# Altium footprint library IBB.PcbLib: 53 footprints (part 3 of 4)
Each footprint in its own frame and in the unit in brackets; x right, y up, seen from the top. Pads: shape width x height; smd on the part's side, far side on the other; paste and mask are expansions set on the pad; w line width, h text height; cw(c..) or ccw(c..) is an arc to the next point about the centre after c.
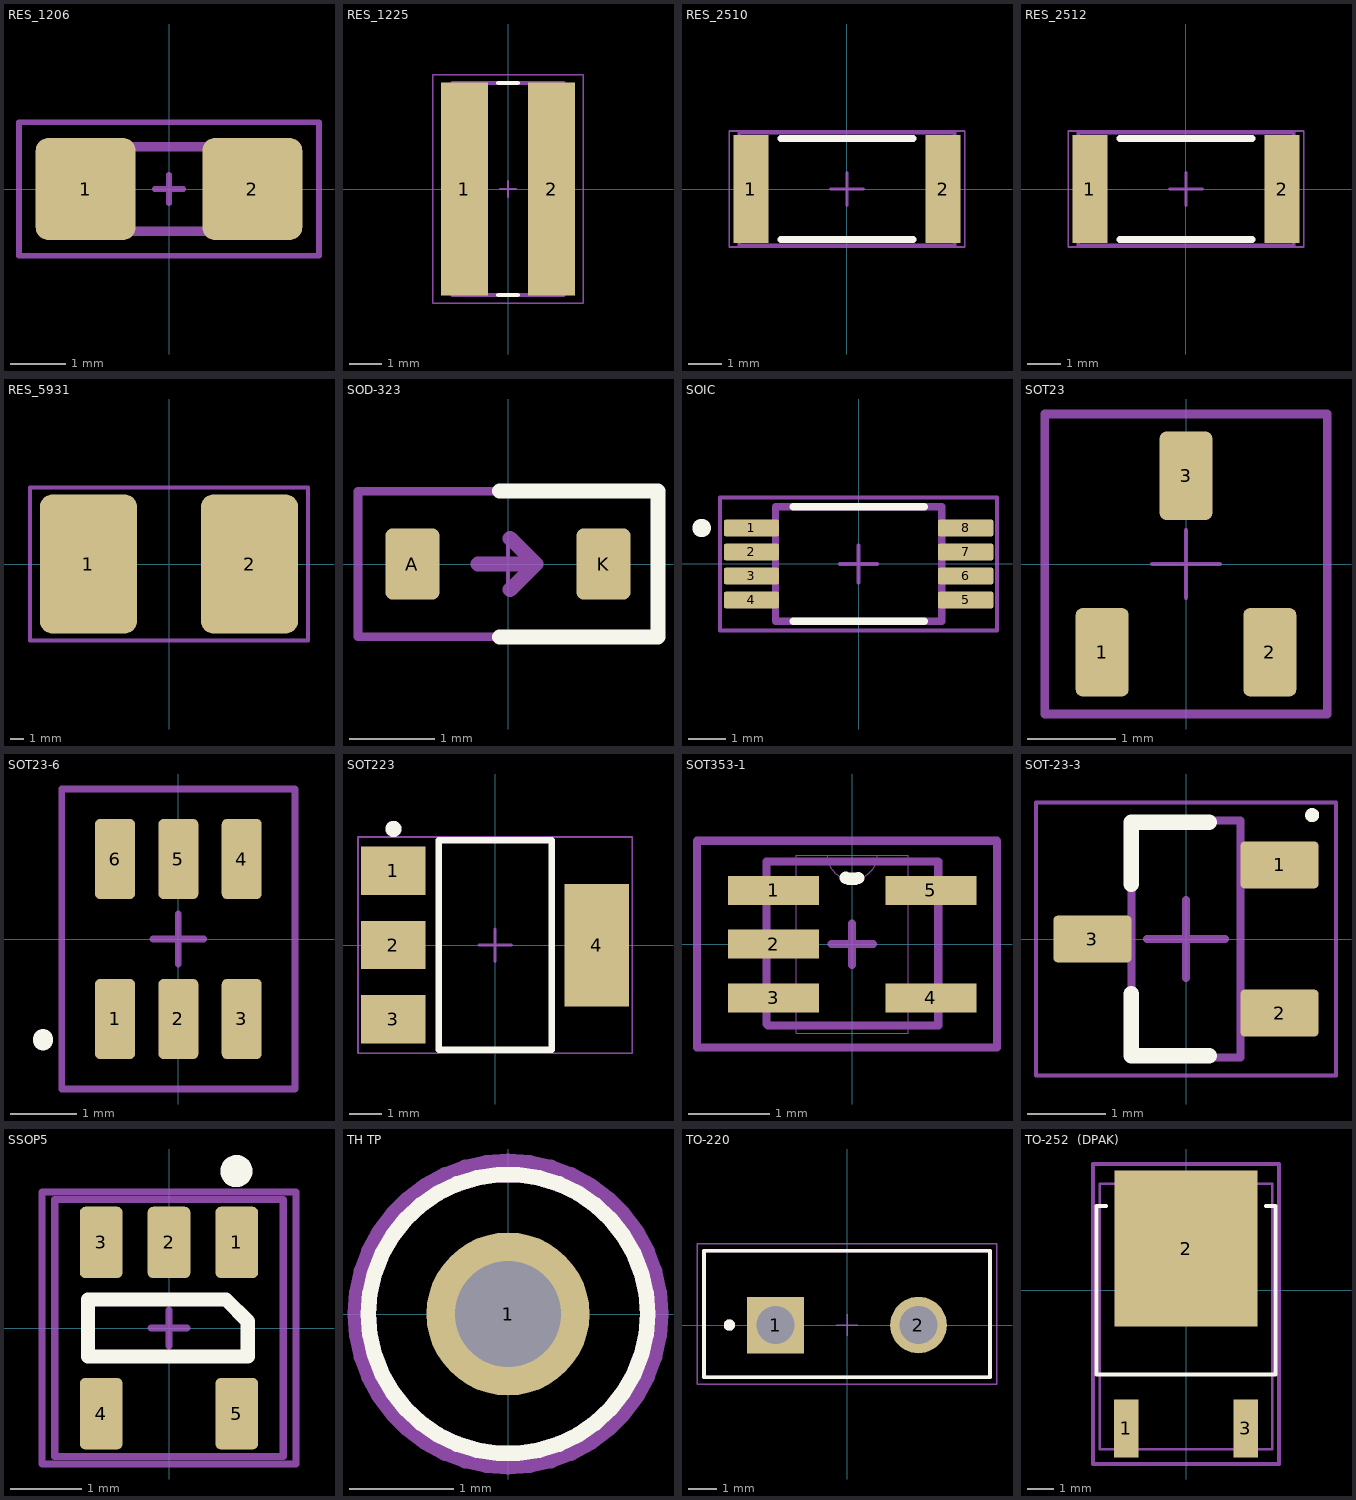
[diagram p2: the footprints below, top view; thin cyan lines are the x and y axes]

## RES_1206 [mm]
pads (2):
  rrect25% 1.8x1.84 smd mask+0.1: 1(-1.5,0) 2(1.5,0)
Top Component Center:
  lines w0.1: -0.254,0 0.254,0 ; 0,-0.254 0,0.254
Top Designator:
  text "'.Designator'" at -2.417,-0.226 h1
Top Assembly:
  lines w0.175: -1.651,-0.762 -1.651,0.762 1.651,0.762 1.651,-0.762 -1.651,-0.762
Top Component Outline:
  lines w0.1: -2.7,-1.2 2.7,-1.2 2.7,1.2 -2.7,1.2 -2.7,-1.2
3D body "R1206.step": height 0.57, standoff 0.01, extent -1.6,-0.83 1.6,0.83

## RES_1225 [mm]
pads (2):
  rect 1.44x6.52 smd paste+0 mask+0.102: 1(-1.34,0) 2(1.34,0)
Top Overlay:
  lines w0.127: -0.3,-3.25 0.3,-3.25 ; -0.3,3.25 0.3,3.25
Top Component Center:
  lines w0.05: -0.254,0 0.254,0 ; 0,-0.254 0,0.254
Top Designator:
  text ".Designator" at -3.434,-0.345 h1.52
Top Assembly:
  lines w0.127: -1.7,-3.25 1.7,-3.25 1.7,3.25 -1.7,3.25 -1.7,-3.25
Top Component Outline:
  lines w0.05: -2.308,-3.508 2.308,-3.508 2.308,3.508 -2.308,3.508 -2.308,-3.508
3D body "step_temp.STEP": height 0.8, standoff 0, extent -1.6,-3.15 1.6,3.15

## RES_2510 [mm]
pads (2):
  rect 1.05x3.25 smd: 1(-2.9,0) 2(2.9,0)
Top Overlay:
  lines w0.2: -2,-1.525 2,-1.525 ; -2,1.525 2,1.525
Top Component Center:
  lines w0.1: -0.5,0 0.5,0 ; 0,-0.5 0,0.5
Top Designator:
  text ".Designator" at -3.434,-0.345 h1.52
Mechanical 13:
  lines w0.1: -3.25,-1.7 -3.25,1.7 3.25,1.7 3.25,-1.7 -3.25,-1.7
Top Component Outline:
  lines w0.05: -3.55,-1.75 -3.55,1.75 3.55,1.75 3.55,-1.75 -3.55,-1.75
3D body: height 0.75, standoff 0, extent 2.63,-1.7 3.25,1.7
3D body: height 0.75, standoff 0, extent -3.25,-1.7 -2.63,1.7
3D body: height 0.75, standoff 0, extent -2.63,-1.7 2.63,1.7

## RES_2512 [mm]
pads (2):
  rect 1.05x3.25 smd: 1(-2.9,0) 2(2.9,0)
Top Overlay:
  lines w0.2: -2,-1.525 2,-1.525 ; -2,1.525 2,1.525
Top Component Center:
  lines w0.1: -0.5,0 0.5,0 ; 0,-0.5 0,0.5
Top Designator:
  text ".Designator" at -3.434,-0.345 h1.52
Mechanical 13:
  lines w0.1: -3.25,-1.7 -3.25,1.7 3.25,1.7 3.25,-1.7 -3.25,-1.7
Top Component Outline:
  lines w0.05: -3.55,-1.75 -3.55,1.75 3.55,1.75 3.55,-1.75 -3.55,-1.75
3D body: height 0.75, standoff 0, extent 2.63,-1.7 3.25,1.7
3D body: height 0.75, standoff 0, extent -3.25,-1.7 -2.63,1.7
3D body: height 0.75, standoff 0, extent -2.63,-1.7 2.63,1.7

## RES_5931 [mm]
pads (2):
  rrect25% 7x10 smd: 1(-5.8,0) 2(5.8,0)
Mechanical 13:
  lines w0.3: -10,-5.5 10,-5.5 10,5.5 -10,5.5 -10,0.5 -10,-5.5
  text "'.Designator'" at -5.815,-0.9 h1
3D body "WSLP5931.stp": height 1.92, standoff 0, extent -7.5,-3.875 7.5,3.875

## SOD-323 [mm]
pads (2):
  rrect25% 0.63x0.83 smd: A(-1.115,0) K(1.115,0)
Top Overlay:
  lines w0.175: -0.1,-0.85 1.75,-0.85 1.75,0.85 -0.1,0.85
Top Component Center:
  lines w0.05: -0.254,0 0.254,0 ; 0,-0.254 0,0.254
Top Designator:
  text "'.Designator'" at -2.417,-0.226 h1
Top Assembly:
  lines w0.175: -0.35,0 0.325,0 ; 0.025,-0.3 0.325,0 ; 0.025,0.3 0.325,0
Top Component Outline:
  lines w0.1: -1.75,-0.85 1.75,-0.85 1.75,0.85 -1.75,0.85 -1.75,-0.85
3D body "SOD-323.step": height 1.1, standoff 0, extent -1.3,-0.675 1.3,0.675

## SOIC [mm]
pads (8):
  rrect22% 1.5x0.45 smd paste+0 mask+0: 1(-2.9,0.975) 2(-2.9,0.325) 3(-2.9,-0.325) 4(-2.9,-0.975) 5(2.9,-0.975) 6(2.9,-0.325) 7(2.9,0.325) 8(2.9,0.975)
Top Overlay:
  circle w0.25: c-4.25,0.975 r0.125
  lines w0.2: -1.775,-1.55 1.775,-1.55 ; -1.775,1.55 1.775,1.55
Top 3D Body:
  lines w0.2: -2.25,-1.55 -2.25,1.55 2.25,1.55 2.25,-1.55 -2.25,-1.55
Top Component Center:
  lines w0.1: -0.5,0 0.5,0 ; 0,-0.5 0,0.5
Top Designator:
  text ".Designator" at -2.252,-0.226 h1
Top Component Outline:
  lines w0.1: -3.75,-1.8 3.75,-1.8 ; -3.75,-1.8 -3.75,1.8 ; -3.75,-1.8 3.75,-1.8 ; -3.75,-1.8 -3.75,1.8 ; -3.75,1.8 3.75,1.8 ; -3.75,1.8 3.75,1.8 ; 3.75,-1.8 3.75,1.8 ; 3.75,-1.8 3.75,1.8
3D body "IC_Texas_Instruments_INA240A1PWR_eec.STEP": height 0.25, standoff 0, extent -3.75,-1.8 3.75,1.8

## SOT23 [mm]
pads (3):
  rrect25% 0.6x1 smd: 1(-0.95,-1) 2(0.95,-1) 3(0,1)
Top Component Center:
  lines w0.05: -0.381,0 0.381,0 ; 0,-0.381 0,0.381
Top Designator:
  text "'.Designator'" at -2.417,-0.226 h1
Top Assembly:
  lines w0.1: -1.6,-1.7 -1.6,1.7 1.6,1.7 1.6,-1.7 -1.6,-1.7
Top Component Outline:
  lines w0.1: -1.6,-1.7 1.6,-1.7 1.6,1.7 -1.6,1.7 -1.6,-1.7
3D body "SOT-23F.STEP": height 0.91, standoff 0, extent -1.45,-1.2 1.45,1.2

## SOT23-6 [mm]
pads (6):
  rrect25% 0.6x1.2 smd mask+0.1: 1(-0.95,-1.2) 2(0,-1.2) 3(0.95,-1.2) 4(0.95,1.2) 5(0,1.2) 6(-0.95,1.2)
Top Overlay:
  lines w0.3: -2.032,-1.524 -2.032,-1.501
Top Component Center:
  lines w0.1: -0.381,0 0.381,0 ; 0,-0.381 0,0.381
Top Designator:
  text "'.Designator'" at -2.417,-0.226 h1
Top Assembly:
  lines w0.1: -1.75,-2.25 -1.75,0 -1.75,2.25 1.75,2.25 1.75,-2.25 -1.75,-2.25
Top Component Outline:
  lines w0.1: -1.75,-2.25 -1.75,0 -1.75,2.25 1.75,2.25 1.75,-2.25 -1.75,-2.25
3D body "SOT23-6.step": height 1.45, standoff 0, extent -1.45,-1.4 1.45,1.4

## SOT223 [mm]
pads (4):
  rect 2x1.5 smd: 1(-3.15,2.3) 2(-3.15,0) 3(-3.15,-2.3)
  rect 2x3.8 smd: 4(3.15,0)
Top Overlay:
  circle w0.25: c-3.15,3.6 r0.125
  lines w0.2: -1.75,-3.25 1.75,-3.25 1.75,3.25 -1.75,3.25 -1.75,-3.2
Top Component Center:
  lines w0.1: -0.5,0 0.5,0 ; 0,-0.5 0,0.5
Top Designator:
  text ".Designator" at -3.434,-0.345 h1.52
Mechanical 13:
  lines w0.1: -1.75,-3.25 1.75,-3.25 1.75,3.25 -1.75,3.25 -1.75,-3.25
Top Component Outline:
  lines w0.05: -4.25,-3.35 -4.25,3.35 4.25,3.35 4.25,-3.35 -4.25,-3.35
3D body: height 1.75, standoff 0.02, extent -1.75,-3.25 1.75,3.25

## SOT353-1 [mil]
pads (5):
  rect 44x14 smd mask+3.94: 1(-38,26) 2(-38,0) 3(-38,-26) 4(38,-26) 5(38,26)
Top Overlay:
  lines w6: -3.09,32.03 ccw(c0,42.13) 2.91,31.97
Top Component Center:
  lines w3.94: -10,0 10,0 ; 0,-10 0,10
Top Designator:
  text ".Designator" at -88.67,-8.9 h39.37
Top Assembly:
  lines w3.94: -41.44,-38.63 -40.72,-39.34 41.06,-39.34 41.7,-39.34 41.62,-39.26 41.62,40 -41.44,40 -41.44,-38.63
Mechanical 13:
  lines w0: -27,-31 -27,-20 ; -27,-31 -27,-43 27,-43 27,-31 ; -27,-31 -43,-31 -43,-20 -27,-20 ; -27,-20 -27,-6 ; -27,-6 -27,6 ; -27,-6 -43,-6 -43,6 -27,6 ; -27,6 -27,20 ; -27,20 -27,31 ; -27,20 -43,20 -43,31 -27,31 ; -27,31 -27,43 -12,43 ; -12,43 ccw(c0,43) 12,43 ; -12,43 12,43 ; 12,43 27,43 27,31 ; 27,-31 27,-20 ; 27,-31 43,-31 43,-20 27,-20 ; 27,-20 27,20 ; 27,20 27,31 ; 27,20 43,20 43,31 27,31
Top Component Outline:
  lines w3.94: -75,-50 -75,50 70,50 70,-50 -75,-50
3D body "step_temp.STEP": height 43.31, standoff 0, extent -41.34,-39.37 41.34,39.37

## SOT-23-3 [mm]
pads (3):
  rrect17% 1x0.6 smd: 1(1.2,0.95) 2(1.2,-0.95) 3(-1.2,0)
Top Overlay:
  circle w0.1: c1.619,1.59 r0.04
  lines w0.2: -0.7,-0.7 -0.7,-1.5 0.3,-1.5 ; -0.7,0.7 -0.7,1.5 0.3,1.5
Top Component Center:
  lines w0.1: -0.5,0 0.5,0 ; 0,-0.5 0,0.5
Top Designator:
  text ".Designator" at 2.252,-0.226 h1
Mechanical 13:
  lines w0.1: -0.7,-1.52 0.7,-1.52 0.7,1.52 -0.7,1.52 -0.7,-1.52
Top Component Outline:
  lines w0.05: -1.925,-1.75 1.925,-1.75 1.925,1.75 -1.925,1.75 -1.925,-1.75
3D body "DBZ0003AakaMF03A.stp": height 0.8, standoff -0.18, extent -1.257,-1.46 1.257,1.461

## SSOP5 [mm]
pads (5):
  rrect25% 0.6x1 smd: 1(0.95,1.2) 2(0,1.2) 3(-0.95,1.2) 4(-0.95,-1.2) 5(0.95,-1.2)
Top Overlay:
  circle w0.25: c0.944,2.199 r0.1
  lines w0.2: -1.134,-0.4 -1.134,0.4 0.8,0.4 1.104,0.096 1.104,-0.4 -1.134,-0.4
Top Component Center:
  lines w0.1: -0.254,0 0.254,0 ; 0,-0.254 0,0.254
Top Designator:
  text "'.Designator'" at -2.417,-0.226 h1
Top Assembly:
  lines w0.1: -1.6,-1.8 1.6,-1.8 1.6,1.8 -1.6,1.8 -1.6,-0.4 -1.6,-1.8
Mechanical 13:
  circle w0.25: c0.962,1.225 r0.1
Top Component Outline:
  lines w0.1: -1.778,-1.905 1.778,-1.905 1.778,1.905 -1.778,1.905 -1.778,-0.222 -1.778,-1.905
3D body "SSOP5.stp": height 1.12, standoff 0, extent -1.45,-1.4 1.45,1.4

## TH TP [mm]
pads (1):
  round 1.57 hole 1.02 paste-2539.97: 1(0,0)
Top Overlay:
  circle w0.15: c0,0 r1.345
Top 3D Body:
  circle w0.15: c0,0 r1.345
Top Component Center:
  lines w0.1: -0.5,0 0.5,0 ; 0,-0.5 0,0.5
Top Designator:
  text ".Designator" at -2.252,-0.226 h1
Top Assembly:
  lines w0.2: -1.445,0 cw(c0,0) 1.445,0 cw(c0,0) -1.445,0
3D body "Conn_Keystone_5000_eec.STEP": height 4.57, standoff -3.05, extent -1.27,-1.261 1.27,1.261

## TO-220 [mm]
pads (2):
  rect 2.01x2.01 / inner round 2.01 / far side rect 2.01x2.01 hole 1.34 mask+0.102: 1(-2.54,0)
  round 2.01 hole 1.34 mask+0.102: 2(2.54,0)
Top Overlay:
  circle w0.2: c-4.179,0 r0.1
  lines w0.127: -5.08,-1.863 -5.08,2.648 5.08,2.648 5.08,-1.863 -5.08,-1.863
Top Component Center:
  lines w0.05: -0.381,0 0.381,0 ; 0,-0.381 0,0.381
Top Designator:
  text ".Designator" at -3.434,-0.345 h1.52
Mechanical 13:
  circle w0.2: c-4.179,0 r0.1
  lines w0.127: -5.08,-1.863 -5.08,2.648 5.08,2.648 5.08,-1.863 -5.08,-1.863
Top Component Outline:
  lines w0.05: -5.33,-2.113 5.33,-2.113 5.33,2.897 -5.33,2.897 -5.33,-2.113
3D body "STPS10L60D.STEP": height 19.68, standoff -10.07, extent -5.1,-1.869 5.1,2.631

## TO-252  (DPAK) [mil] "1N65M5 STM"
pads (3):
  rect 37x87 smd paste+0: 1(-90,-208.5) 3(90,-208.5)
  rect 215x235 smd paste+0: 2(0,62.5)
Top Overlay:
  lines w6: -120.6,127 -135,127 -135,-127 135,-127 135,127 120.6,127
  text "." at -145,-230 h118.11
Top Designator:
  text ".Designator" at -112.54,-11.3 h50
Mechanical 13:
  lines w3.94: -130,-240 -130,160 130,160 130,-240 -130,-240
Top Component Outline:
  lines w6: -140,-262 -140,-132 -140,132 -140,190 140,190 140,132 140,-132 140,-262 -140,-262
3D body "DPAK_1N65M5_STM.step": height 96.06, standoff -0.04, extent -130,-240 130,157.01